# Altium footprint library BrrLib.PcbLib: 4 footprints
Each footprint in its own frame and in the unit in brackets; x right, y up, seen from the top. Pads: shape width x height; smd on the part's side, far side on the other; paste and mask are expansions set on the pad; w line width, h text height; cw(c..) or ccw(c..) is an arc to the next point about the centre after c.
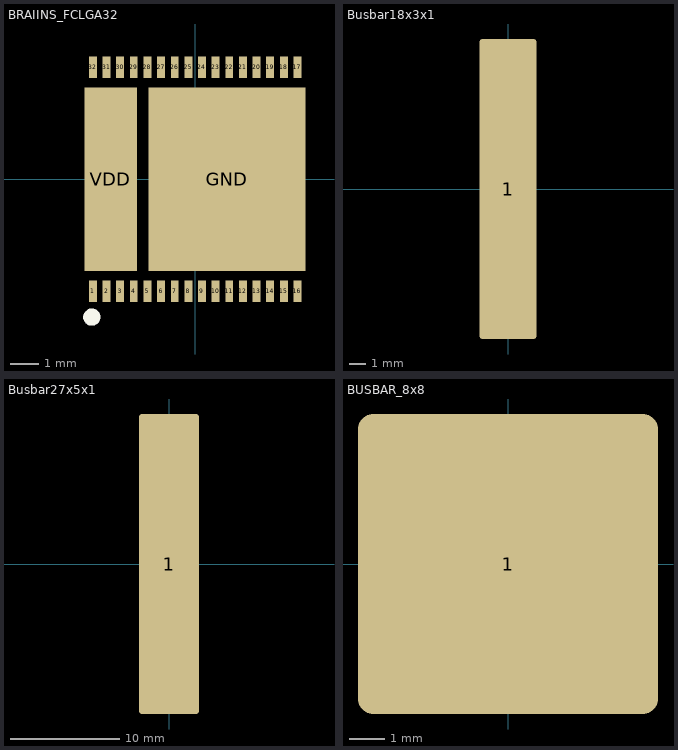
[diagram p0: the footprints below, top view; thin cyan lines are the x and y axes]

## BRAIINS_FCLGA32 [mm]
pads (34):
  rect 0.275x0.75 smd: 1(-3.563,-3.9) 2(-3.088,-3.9) 3(-2.612,-3.9) 4(-2.137,-3.9) 5(-1.662,-3.9) 6(-1.187,-3.9) 7(-0.712,-3.9) 8(-0.237,-3.9) 9(0.237,-3.9) 10(0.712,-3.9) 11(1.187,-3.9) 12(1.662,-3.9) 13(2.137,-3.9) 14(2.612,-3.9) 15(3.088,-3.9) 16(3.563,-3.9) 17(3.563,3.9) 18(3.088,3.9) 19(2.612,3.9) 20(2.137,3.9) 21(1.662,3.9) 22(1.187,3.9) 23(0.712,3.9) 24(0.237,3.9) 25(-0.237,3.9) 26(-0.712,3.9) 27(-1.187,3.9) 28(-1.662,3.9) 29(-2.137,3.9) 30(-2.612,3.9) 31(-3.088,3.9) 32(-3.563,3.9)
  rect 5.475x6.4 smd paste-100: GND(1.113,0)
  rect 1.825x6.4 smd paste-20: VDD(-2.935,0)
Top Overlay:
  circle w0.3: c-3.6,-4.8 r0.15
Top Paste:
  region: -1.2,1.9 -1.2,2.9 -0.2,2.9 -0.2,1.9
  region: 0.6,1.9 0.6,2.9 1.6,2.9 1.6,1.9
  region: 2.4,1.9 2.4,2.9 3.4,2.9 3.4,1.9
  region: 2.4,0.3 2.4,1.3 3.4,1.3 3.4,0.3
  region: 0.6,0.3 0.6,1.3 1.6,1.3 1.6,0.3
  region: -1.2,0.3 -1.2,1.3 -0.2,1.3 -0.2,0.3
  region: -1.2,-1.3 -1.2,-0.3 -0.2,-0.3 -0.2,-1.3
  region: 0.6,-1.3 0.6,-0.3 1.6,-0.3 1.6,-1.3
  region: 2.4,-1.3 2.4,-0.3 3.4,-0.3 3.4,-1.3
  region: 2.4,-2.9 2.4,-1.9 3.4,-1.9 3.4,-2.9
  region: 0.6,-2.9 0.6,-1.9 1.6,-1.9 1.6,-2.9
  region: -3.45,1.9 -3.45,2.9 -2.45,2.9 -2.45,1.9
  region: -3.45,0.3 -3.45,1.3 -2.45,1.3 -2.45,0.3
  region: -3.45,-1.3 -3.45,-0.3 -2.45,-0.3 -2.45,-1.3
  region: -1.2,-2.9 -1.2,-1.9 -0.2,-1.9 -0.2,-2.9
  region: -3.45,-2.9 -3.45,-1.9 -2.45,-1.9 -2.45,-2.9

## Busbar18x3x1 [mm]
pads (1):
  rrect10% 3.5x18.5 smd: 1(0,0)
3D body "BusBar18x3x1.step": height 1, standoff 0, extent -1.5,-9 1.5,9

## Busbar27x5x1 [mm]
pads (1):
  rrect10% 5.5x27.5 smd: 1(0,0)
3D body "Busbar 27x5x1 v1.step": height 1, standoff 0, extent -2.5,-13.5 2.5,13.5

## BUSBAR_8x8 [mm]
pads (1):
  rrect10% 8.5x8.5 smd: 1(0,0)
3D body "BusBar8x8x0.5.step": height 0.51, standoff 0.01, extent -4,-4 4,4